# EAGLE library part PROTECTION_CELL (library _mtvl.cells)
Protection Cell (electronic fuse) Overcurrent & undervoltage foldback protectrion
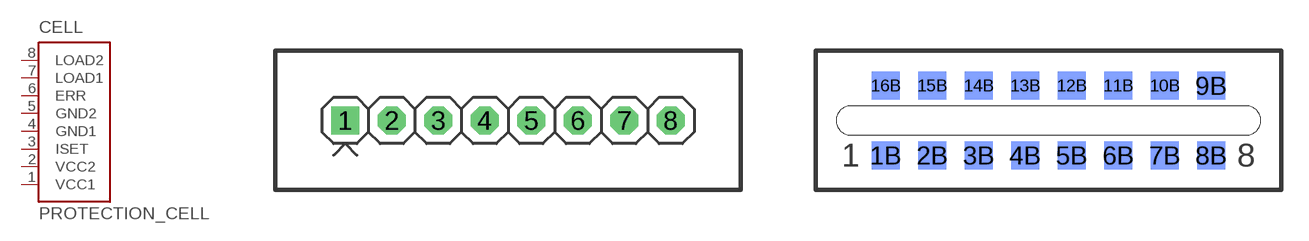
[diagram p5: symbol with the pads of SIP-8B; footprints SIP-8B, SIP-8_SLOT]

Designator prefix CELL

## PROTECTION_CELL  [SIP-8B]
1  VCC1
2  VCC2
3  ISET
4  GND1
5  GND2
6  ERR
7  LOAD1
8  LOAD2

## PROTECTION_CELLSL  [SIP-8_SLOT]
1B  VCC1
2B  VCC2
3B  ISET
4B  GND1
5B  GND2
6B  ERR
7B  LOAD1
8B  LOAD2
9B  LOAD2
10B  LOAD1
11B  ERR
12B  GND2
13B  GND1
14B  ISET
15B  VCC2
16B  VCC1

## Footprint SIP-8B (pad centres in mm)
SIP Hybrid Submodule "CELL" 8-pin VAR B
drill 1 square: 1 -8.89,0
drill 1 octagon: 2 -6.35,0; 3 -3.81,0; 4 -1.27,0; 5 1.27,0; 6 3.81,0; 7 6.35,0; 8 8.89,0

## Footprint SIP-8_SLOT (pad centres in mm)
SIP-8 CELL SLOT
smd 1.524 x 1.524 bottom: 1B -8.89,-1.905; 2B -6.35,-1.905; 3B -3.81,-1.905; 4B -1.27,-1.905; 5B 1.27,-1.905; 6B 3.81,-1.905; 7B 6.35,-1.905; 8B 8.89,-1.905; 9B 8.89,1.905; 10B 6.35,1.905; 11B 3.81,1.905; 12B 1.27,1.905; 13B -1.27,1.905; 14B -3.81,1.905; 15B -6.35,1.905; 16B -8.89,1.905